# Altium integrated library TI Power Management LDO Single Channel(400-7500mA).IntLib: 1409 symbols (part 5 of 60)
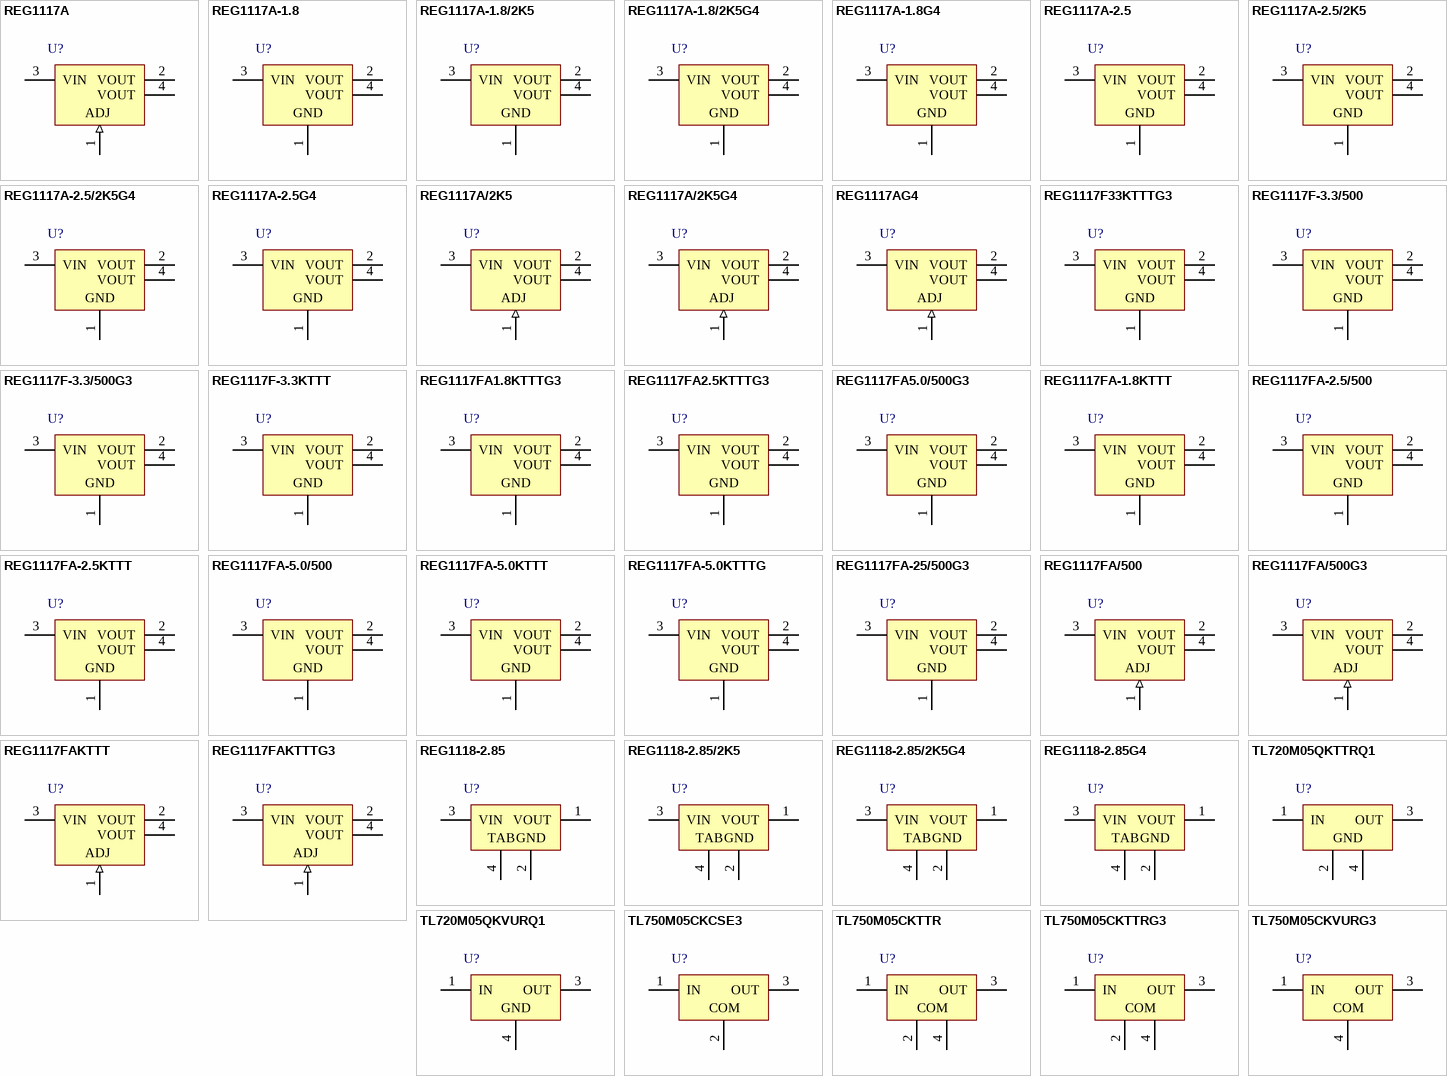
[diagram p54: symbols REG1117A to TL750M05CKVURG3]

## REG1117A-1.8G4
designator U?
Single Output LDO, 1 A, Fixed 1.8 V Output, 3.8 to 15 V Input, with Internal Current Limiting, 4-pin SOT-223 (DCY), -40 to 125 degC, Green (RoHS & no Sb/Br); Manufacturer: Texas Instruments; PartNumber: REG1117A-1.8G4; Fixed Output Options(V): 1.8; Iout(Max)(A): 1; Iq(Typ)(mA): 4; Rating: Catalog; SubFamily: Single Channel LDO; Vdo(Typ)(mV): 1200; Vin(Max)(V): 15; Vin(Min)(V): 3.8; DatasheetVersion: SBVS001D; PackageVersion: 4202506/B; PackageReference: DCY4; PackageDescription: 4-Pin Plastic Small Outline, Body 3.5 x 6.5 mm, Pitch 2.3 mm; Supplier 1: Digi-Key; Supplier Part Number 1: REG1117A-1.8G4-ND; Supplier 2: Newark; Supplier Part Number 2: 28M6745; Supplier 3: Mouser; Supplier Part Number 3: 595-REG1117A-1.8G4; Eco-Plan: Green (RoHS & no Sb/Br); Vout Adj(Max)(V): 1.8; Vout Adj(Min)(V): 1.8; Mounting Technology: Surface Mount; Code_JEDEC: TO-261; ComponentLink1Description: Manufacturer URL; ComponentLink1URL: http://www.ti.com/; ComponentLink2Description: Datasheet; ComponentLink2URL: http://www.ti.com/general/docs/lit/getliterature.tsp?genericPartNumber=REG1117A-18&fileType=pdf; ComponentLink3Description: Package Specification; ComponentLink3URL: http://www.ti.com/litv/pdf/mpds094a
footprint TI-DCY4_N (SOT223, 4-Leads, Body 6.5x3.5mm, Pitch 2.3mm, IPC Medium Density)
footprint TI-DCY4_L (SOT223, 4-Leads, Body 6.5x3.5mm, Pitch 2.3mm, IPC High Density)
footprint TI-DCY4_M (SOT223, 4-Leads, Body 6.5x3.5mm, Pitch 2.3mm, IPC Low Density)
pins: 1 GND (power), 2 VOUT (power), 3 VIN (power), 4 VOUT (power)

## REG1117A-2.5
designator U?
Single Output LDO, 1 A, Fixed 2.5 V Output, 3.8 to 15 V Input, with Internal Current Limiting, 4-pin SOT-223 (DCY), -40 to 125 degC, Green (RoHS & no Sb/Br); Manufacturer: Texas Instruments; PartNumber: REG1117A-2.5; Fixed Output Options(V): 2.5; Iout(Max)(A): 1; Iq(Typ)(mA): 4; Rating: Catalog; SubFamily: Single Channel LDO; Vdo(Typ)(mV): 1200; Vin(Max)(V): 15; Vin(Min)(V): 3.8; DatasheetVersion: SBVS001D; PackageVersion: 4202506/B; PackageReference: DCY4; PackageDescription: 4-Pin Plastic Small Outline, Body 3.5 x 6.5 mm, Pitch 2.3 mm; Supplier 1: Digi-Key; Supplier Part Number 1: REG1117A-2.5-ND; Supplier 2: Farnell; Supplier Part Number 2: 1417414; Supplier 3: Newark; Supplier Part Number 3: 75C7560; Supplier 4: Mouser; Supplier Part Number 4: 595-REG1117A-2.5; Eco-Plan: Green (RoHS & no Sb/Br); Vout Adj(Max)(V): 2.5; Vout Adj(Min)(V): 2.5; Mounting Technology: Surface Mount; Code_JEDEC: TO-261; ComponentLink1Description: Manufacturer URL; ComponentLink1URL: http://www.ti.com/; ComponentLink2Description: Datasheet; ComponentLink2URL: http://www.ti.com/general/docs/lit/getliterature.tsp?genericPartNumber=REG1117A-25&fileType=pdf; ComponentLink3Description: Package Specification; ComponentLink3URL: http://www.ti.com/litv/pdf/mpds094a
footprint TI-DCY4_N (SOT223, 4-Leads, Body 6.5x3.5mm, Pitch 2.3mm, IPC Medium Density)
footprint TI-DCY4_L (SOT223, 4-Leads, Body 6.5x3.5mm, Pitch 2.3mm, IPC High Density)
footprint TI-DCY4_M (SOT223, 4-Leads, Body 6.5x3.5mm, Pitch 2.3mm, IPC Low Density)
pins: 1 GND (power), 2 VOUT (power), 3 VIN (power), 4 VOUT (power)

## REG1117A-2.5/2K5
designator U?
Single Output LDO, 1 A, Fixed 2.5 V Output, 3.8 to 15 V Input, with Internal Current Limiting, 4-pin SOT-223 (DCY), -40 to 125 degC, Green (RoHS & no Sb/Br); Manufacturer: Texas Instruments; PartNumber: REG1117A-2.5/2K5; Fixed Output Options(V): 2.5; Iout(Max)(A): 1; Iq(Typ)(mA): 4; Rating: Catalog; SubFamily: Single Channel LDO; Vdo(Typ)(mV): 1200; Vin(Max)(V): 15; Vin(Min)(V): 3.8; DatasheetVersion: SBVS001D; PackageVersion: 4202506/B; PackageReference: DCY4; PackageDescription: 4-Pin Plastic Small Outline, Body 3.5 x 6.5 mm, Pitch 2.3 mm; Supplier 1: Digi-Key; Supplier Part Number 1: REG1117A-2.5/2K5-ND; Supplier 2: Mouser; Supplier Part Number 2: 595-REG1117A-2.5/2K5; Eco-Plan: Green (RoHS & no Sb/Br); Vout Adj(Max)(V): 2.5; Vout Adj(Min)(V): 2.5; Mounting Technology: Surface Mount; Code_JEDEC: TO-261; ComponentLink1Description: Manufacturer URL; ComponentLink1URL: http://www.ti.com/; ComponentLink2Description: Datasheet; ComponentLink2URL: http://www.ti.com/general/docs/lit/getliterature.tsp?genericPartNumber=REG1117A-25&fileType=pdf; ComponentLink3Description: Package Specification; ComponentLink3URL: http://www.ti.com/litv/pdf/mpds094a
footprint TI-DCY4_N (SOT223, 4-Leads, Body 6.5x3.5mm, Pitch 2.3mm, IPC Medium Density)
footprint TI-DCY4_L (SOT223, 4-Leads, Body 6.5x3.5mm, Pitch 2.3mm, IPC High Density)
footprint TI-DCY4_M (SOT223, 4-Leads, Body 6.5x3.5mm, Pitch 2.3mm, IPC Low Density)
pins: 1 GND (power), 2 VOUT (power), 3 VIN (power), 4 VOUT (power)

## REG1117A-2.5/2K5G4
designator U?
Single Output LDO, 1 A, Fixed 2.5 V Output, 3.8 to 15 V Input, with Internal Current Limiting, 4-pin SOT-223 (DCY), -40 to 125 degC, Green (RoHS & no Sb/Br); Manufacturer: Texas Instruments; PartNumber: REG1117A-2.5/2K5G4; Fixed Output Options(V): 2.5; Iout(Max)(A): 1; Iq(Typ)(mA): 4; Rating: Catalog; SubFamily: Single Channel LDO; Vdo(Typ)(mV): 1200; Vin(Max)(V): 15; Vin(Min)(V): 3.8; DatasheetVersion: SBVS001D; PackageVersion: 4202506/B; PackageReference: DCY4; PackageDescription: 4-Pin Plastic Small Outline, Body 3.5 x 6.5 mm, Pitch 2.3 mm; Supplier 1: Digi-Key; Supplier Part Number 1: REG1117A-2.5/2K5G4-ND; Supplier 2: Newark; Supplier Part Number 2: 18M2965; Supplier 3: Mouser; Supplier Part Number 3: 595-REG1117A252K5G4; Eco-Plan: Green (RoHS & no Sb/Br); Vout Adj(Max)(V): 2.5; Vout Adj(Min)(V): 2.5; Mounting Technology: Surface Mount; Code_JEDEC: TO-261; ComponentLink1Description: Manufacturer URL; ComponentLink1URL: http://www.ti.com/; ComponentLink2Description: Datasheet; ComponentLink2URL: http://www.ti.com/general/docs/lit/getliterature.tsp?genericPartNumber=REG1117A-25&fileType=pdf; ComponentLink3Description: Package Specification; ComponentLink3URL: http://www.ti.com/litv/pdf/mpds094a
footprint TI-DCY4_N (SOT223, 4-Leads, Body 6.5x3.5mm, Pitch 2.3mm, IPC Medium Density)
footprint TI-DCY4_L (SOT223, 4-Leads, Body 6.5x3.5mm, Pitch 2.3mm, IPC High Density)
footprint TI-DCY4_M (SOT223, 4-Leads, Body 6.5x3.5mm, Pitch 2.3mm, IPC Low Density)
pins: 1 GND (power), 2 VOUT (power), 3 VIN (power), 4 VOUT (power)

## REG1117A-2.5G4
designator U?
Single Output LDO, 1 A, Fixed 2.5 V Output, 3.8 to 15 V Input, with Internal Current Limiting, 4-pin SOT-223 (DCY), -40 to 125 degC, Green (RoHS & no Sb/Br); Manufacturer: Texas Instruments; PartNumber: REG1117A-2.5G4; Fixed Output Options(V): 2.5; Iout(Max)(A): 1; Iq(Typ)(mA): 4; Rating: Catalog; SubFamily: Single Channel LDO; Vdo(Typ)(mV): 1200; Vin(Max)(V): 15; Vin(Min)(V): 3.8; DatasheetVersion: SBVS001D; PackageVersion: 4202506/B; PackageReference: DCY4; PackageDescription: 4-Pin Plastic Small Outline, Body 3.5 x 6.5 mm, Pitch 2.3 mm; Supplier 1: Digi-Key; Supplier Part Number 1: REG1117A-2.5G4-ND; Supplier 2: Newark; Supplier Part Number 2: 28M6746; Supplier 3: Mouser; Supplier Part Number 3: 595-REG1117A-2.5G4; Eco-Plan: Green (RoHS & no Sb/Br); Vout Adj(Max)(V): 2.5; Vout Adj(Min)(V): 2.5; Mounting Technology: Surface Mount; Code_JEDEC: TO-261; ComponentLink1Description: Manufacturer URL; ComponentLink1URL: http://www.ti.com/; ComponentLink2Description: Datasheet; ComponentLink2URL: http://www.ti.com/general/docs/lit/getliterature.tsp?genericPartNumber=REG1117A-25&fileType=pdf; ComponentLink3Description: Package Specification; ComponentLink3URL: http://www.ti.com/litv/pdf/mpds094a
footprint TI-DCY4_N (SOT223, 4-Leads, Body 6.5x3.5mm, Pitch 2.3mm, IPC Medium Density)
footprint TI-DCY4_L (SOT223, 4-Leads, Body 6.5x3.5mm, Pitch 2.3mm, IPC High Density)
footprint TI-DCY4_M (SOT223, 4-Leads, Body 6.5x3.5mm, Pitch 2.3mm, IPC Low Density)
pins: 1 GND (power), 2 VOUT (power), 3 VIN (power), 4 VOUT (power)

## REG1117A/2K5
designator U?
Single Output LDO, 1 A, Adjustable 1.25 to 13.5 V Output, 3.8 to 15 V Input, with Internal Current Limiting, 4-pin SOT-223 (DCY), -40 to 125 degC, Green (RoHS & no Sb/Br); Manufacturer: Texas Instruments; PartNumber: REG1117A/2K5; Iout(Max)(A): 1; Iq(Typ)(mA): 4; Rating: Catalog; SubFamily: Single Channel LDO; Vdo(Typ)(mV): 1200; Vin(Max)(V): 15; Vin(Min)(V): 3.8; Vout Adj(Max)(V): 13.5; Vout Adj(Min)(V): 1.5; DatasheetVersion: SBVS001D; PackageVersion: 4202506/B; PackageReference: DCY4; PackageDescription: 4-Pin Plastic Small Outline, Body 3.5 x 6.5 mm, Pitch 2.3 mm; Supplier 1: Digi-Key; Supplier Part Number 1: REG1117A/2K5-ND; Supplier 2: Newark; Supplier Part Number 2: 75C7562; Supplier 3: Mouser; Supplier Part Number 3: 595-REG1117A/2K5; Eco-Plan: Green (RoHS & no Sb/Br); Mounting Technology: Surface Mount; Code_JEDEC: TO-261; ComponentLink1Description: Manufacturer URL; ComponentLink1URL: http://www.ti.com/; ComponentLink2Description: Datasheet; ComponentLink2URL: http://www.ti.com/general/docs/lit/getliterature.tsp?genericPartNumber=REG1117A&fileType=pdf; ComponentLink3Description: Package Specification; ComponentLink3URL: http://www.ti.com/litv/pdf/mpds094a
footprint TI-DCY4_N (SOT223, 4-Leads, Body 6.5x3.5mm, Pitch 2.3mm, IPC Medium Density)
footprint TI-DCY4_L (SOT223, 4-Leads, Body 6.5x3.5mm, Pitch 2.3mm, IPC High Density)
footprint TI-DCY4_M (SOT223, 4-Leads, Body 6.5x3.5mm, Pitch 2.3mm, IPC Low Density)
pins: 1 ADJ (in), 2 VOUT (power), 3 VIN (power), 4 VOUT (power)

## REG1117A/2K5G4
designator U?
Single Output LDO, 1 A, Adjustable 1.25 to 13.5 V Output, 3.8 to 15 V Input, with Internal Current Limiting, 4-pin SOT-223 (DCY), -40 to 125 degC, Green (RoHS & no Sb/Br); Manufacturer: Texas Instruments; PartNumber: REG1117A/2K5G4; Iout(Max)(A): 1; Iq(Typ)(mA): 4; Rating: Catalog; SubFamily: Single Channel LDO; Vdo(Typ)(mV): 1200; Vin(Max)(V): 15; Vin(Min)(V): 3.8; Vout Adj(Max)(V): 13.5; Vout Adj(Min)(V): 1.5; DatasheetVersion: SBVS001D; PackageVersion: 4202506/B; PackageReference: DCY4; PackageDescription: 4-Pin Plastic Small Outline, Body 3.5 x 6.5 mm, Pitch 2.3 mm; Supplier 1: Digi-Key; Supplier Part Number 1: REG1117A/2K5G4-ND; Supplier 2: Newark; Supplier Part Number 2: 60M1722; Supplier 3: Mouser; Supplier Part Number 3: 595-REG1117A/2K5G4; Eco-Plan: Green (RoHS & no Sb/Br); Mounting Technology: Surface Mount; Code_JEDEC: TO-261; ComponentLink1Description: Manufacturer URL; ComponentLink1URL: http://www.ti.com/; ComponentLink2Description: Datasheet; ComponentLink2URL: http://www.ti.com/general/docs/lit/getliterature.tsp?genericPartNumber=REG1117A&fileType=pdf; ComponentLink3Description: Package Specification; ComponentLink3URL: http://www.ti.com/litv/pdf/mpds094a
footprint TI-DCY4_N (SOT223, 4-Leads, Body 6.5x3.5mm, Pitch 2.3mm, IPC Medium Density)
footprint TI-DCY4_L (SOT223, 4-Leads, Body 6.5x3.5mm, Pitch 2.3mm, IPC High Density)
footprint TI-DCY4_M (SOT223, 4-Leads, Body 6.5x3.5mm, Pitch 2.3mm, IPC Low Density)
pins: 1 ADJ (in), 2 VOUT (power), 3 VIN (power), 4 VOUT (power)

## REG1117AG4
designator U?
Single Output LDO, 1 A, Adjustable 1.25 to 13.5 V Output, 3.8 to 15 V Input, with Internal Current Limiting, 4-pin SOT-223 (DCY), -40 to 125 degC, Green (RoHS & no Sb/Br); Manufacturer: Texas Instruments; PartNumber: REG1117AG4; Iout(Max)(A): 1; Iq(Typ)(mA): 4; Rating: Catalog; SubFamily: Single Channel LDO; Vdo(Typ)(mV): 1200; Vin(Max)(V): 15; Vin(Min)(V): 3.8; Vout Adj(Max)(V): 13.5; Vout Adj(Min)(V): 1.5; DatasheetVersion: SBVS001D; PackageVersion: 4202506/B; PackageReference: DCY4; PackageDescription: 4-Pin Plastic Small Outline, Body 3.5 x 6.5 mm, Pitch 2.3 mm; Supplier 1: Digi-Key; Supplier Part Number 1: REG1117AG4-ND; Supplier 2: Newark; Supplier Part Number 2: 14M2182; Supplier 3: Mouser; Supplier Part Number 3: 595-REG1117AG4; Eco-Plan: Green (RoHS & no Sb/Br); Mounting Technology: Surface Mount; Code_JEDEC: TO-261; ComponentLink1Description: Manufacturer URL; ComponentLink1URL: http://www.ti.com/; ComponentLink2Description: Datasheet; ComponentLink2URL: http://www.ti.com/general/docs/lit/getliterature.tsp?genericPartNumber=REG1117A&fileType=pdf; ComponentLink3Description: Package Specification; ComponentLink3URL: http://www.ti.com/litv/pdf/mpds094a
footprint TI-DCY4_N (SOT223, 4-Leads, Body 6.5x3.5mm, Pitch 2.3mm, IPC Medium Density)
footprint TI-DCY4_L (SOT223, 4-Leads, Body 6.5x3.5mm, Pitch 2.3mm, IPC High Density)
footprint TI-DCY4_M (SOT223, 4-Leads, Body 6.5x3.5mm, Pitch 2.3mm, IPC Low Density)
pins: 1 ADJ (in), 2 VOUT (power), 3 VIN (power), 4 VOUT (power)

## REG1117F33KTTTG3
designator U?
Single Output LDO, 800 mA, Fixed 3.3 V Output, 3.8 to 15 V Input, with Internal Current Limiting, 3-pin DDPAK (KTT), -40 to 125 degC, Green (RoHS & no Sb/Br); Manufacturer: Texas Instruments; PartNumber: REG1117F33KTTTG3; Fixed Output Options(V): 5; Iout(Max)(A): 0.8; Iq(Typ)(mA): 4; Rating: Catalog; SubFamily: Single Channel LDO; Vdo(Typ)(mV): 1100; Vin(Max)(V): 15; Vin(Min)(V): 3.8; Vout Adj(Max)(V): 3.3; DatasheetVersion: SBVS001D; PackageVersion: 4200577-2/F; PackageReference: KTT3; PackageDescription: 3-Pin Plastic Flange Mount, Body 10.16 x 10.43 mm, Pitch 2.54 mm; Supplier 1: Digi-Key; Supplier Part Number 1: REG1117F33KTTTG3-ND; Supplier 2: Mouser; Supplier Part Number 2: 595-REG1117F33KTTTG3; Eco-Plan: Green (RoHS & no Sb/Br); Vout Adj(Min)(V): 3.3; Mounting Technology: Surface Mount; Code_JEDEC: TO-263; ComponentLink1Description: Manufacturer URL; ComponentLink1URL: http://www.ti.com/; ComponentLink2Description: Datasheet; ComponentLink2URL: http://www.ti.com/general/docs/lit/getliterature.tsp?genericPartNumber=REG1117-33&fileType=pdf; ComponentLink3Description: Package Specification; ComponentLink3URL: http://www.ti.com/litv/pdf/mpsf006e
footprint TI-KTT3_N (DPAK, 3-Leads, Body 10.16x9.015mm, Pitch 2.54mm, IPC Medium Density)
footprint TI-KTT3_L (DPAK, 3-Leads, Body 10.16x9.015mm, Pitch 2.54mm, IPC High Density)
footprint TI-KTT3_M (DPAK, 3-Leads, Body 10.16x9.015mm, Pitch 2.54mm, IPC Low Density)
pins: 1 GND (power), 2 VOUT (power), 3 VIN (power), 4 VOUT (power)

## REG1117F-3.3/500
designator U?
Single Output LDO, 800 mA, Fixed 3.3 V Output, 3.8 to 15 V Input, with Internal Current Limiting, 3-pin DDPAK (KTT), -40 to 125 degC, Green (RoHS & no Sb/Br); Manufacturer: Texas Instruments; PartNumber: REG1117F-3.3/500; Fixed Output Options(V): 5; Iout(Max)(A): 0.8; Iq(Typ)(mA): 4; Rating: Catalog; SubFamily: Single Channel LDO; Vdo(Typ)(mV): 1100; Vin(Max)(V): 15; Vin(Min)(V): 3.8; Vout Adj(Max)(V): 3.3; DatasheetVersion: SBVS001D; PackageVersion: 4200577-2/F; PackageReference: KTT3; PackageDescription: 3-Pin Plastic Flange Mount, Body 10.16 x 10.43 mm, Pitch 2.54 mm; Supplier 1: Digi-Key; Supplier Part Number 1: 296-15941-2-ND; Supplier 2: Digi-Key; Supplier Part Number 2: 296-15941-1-ND; Supplier 3: Digi-Key; Supplier Part Number 3: 296-15941-6-ND; Supplier 4: Mouser; Supplier Part Number 4: 595-REG1117F-3.3/500; Eco-Plan: Green (RoHS & no Sb/Br); Vout Adj(Min)(V): 3.3; Mounting Technology: Surface Mount; Code_JEDEC: TO-263; ComponentLink1Description: Manufacturer URL; ComponentLink1URL: http://www.ti.com/; ComponentLink2Description: Datasheet; ComponentLink2URL: http://www.ti.com/general/docs/lit/getliterature.tsp?genericPartNumber=REG1117-33&fileType=pdf; ComponentLink3Description: Package Specification; ComponentLink3URL: http://www.ti.com/litv/pdf/mpsf006e
footprint TI-KTT3_N (DPAK, 3-Leads, Body 10.16x9.015mm, Pitch 2.54mm, IPC Medium Density)
footprint TI-KTT3_L (DPAK, 3-Leads, Body 10.16x9.015mm, Pitch 2.54mm, IPC High Density)
footprint TI-KTT3_M (DPAK, 3-Leads, Body 10.16x9.015mm, Pitch 2.54mm, IPC Low Density)
pins: 1 GND (power), 2 VOUT (power), 3 VIN (power), 4 VOUT (power)

## REG1117F-3.3/500G3
designator U?
Single Output LDO, 800 mA, Fixed 3.3 V Output, 3.8 to 15 V Input, with Internal Current Limiting, 3-pin DDPAK (KTT), -40 to 125 degC, Green (RoHS & no Sb/Br); Manufacturer: Texas Instruments; PartNumber: REG1117F-3.3/500G3; Fixed Output Options(V): 5; Iout(Max)(A): 0.8; Iq(Typ)(mA): 4; Rating: Catalog; SubFamily: Single Channel LDO; Vdo(Typ)(mV): 1100; Vin(Max)(V): 15; Vin(Min)(V): 3.8; Vout Adj(Max)(V): 3.3; DatasheetVersion: SBVS001D; PackageVersion: 4200577-2/F; PackageReference: KTT3; PackageDescription: 3-Pin Plastic Flange Mount, Body 10.16 x 10.43 mm, Pitch 2.54 mm; Supplier 1: Digi-Key; Supplier Part Number 1: REG1117F-3.3/500G3-ND; Supplier 2: Mouser; Supplier Part Number 2: 595-REG1117F33500G3; Eco-Plan: Green (RoHS & no Sb/Br); Vout Adj(Min)(V): 3.3; Mounting Technology: Surface Mount; Code_JEDEC: TO-263; ComponentLink1Description: Manufacturer URL; ComponentLink1URL: http://www.ti.com/; ComponentLink2Description: Datasheet; ComponentLink2URL: http://www.ti.com/general/docs/lit/getliterature.tsp?genericPartNumber=REG1117-33&fileType=pdf; ComponentLink3Description: Package Specification; ComponentLink3URL: http://www.ti.com/litv/pdf/mpsf006e
footprint TI-KTT3_N (DPAK, 3-Leads, Body 10.16x9.015mm, Pitch 2.54mm, IPC Medium Density)
footprint TI-KTT3_L (DPAK, 3-Leads, Body 10.16x9.015mm, Pitch 2.54mm, IPC High Density)
footprint TI-KTT3_M (DPAK, 3-Leads, Body 10.16x9.015mm, Pitch 2.54mm, IPC Low Density)
pins: 1 GND (power), 2 VOUT (power), 3 VIN (power), 4 VOUT (power)

## REG1117F-3.3KTTT
designator U?
Single Output LDO, 800 mA, Fixed 3.3 V Output, 3.8 to 15 V Input, with Internal Current Limiting, 3-pin DDPAK (KTT), -40 to 125 degC, Green (RoHS & no Sb/Br); Manufacturer: Texas Instruments; PartNumber: REG1117F-3.3KTTT; Fixed Output Options(V): 5; Iout(Max)(A): 0.8; Iq(Typ)(mA): 4; Rating: Catalog; SubFamily: Single Channel LDO; Vdo(Typ)(mV): 1100; Vin(Max)(V): 15; Vin(Min)(V): 3.8; Vout Adj(Max)(V): 3.3; DatasheetVersion: SBVS001D; PackageVersion: 4200577-2/F; PackageReference: KTT3; PackageDescription: 3-Pin Plastic Flange Mount, Body 10.16 x 10.43 mm, Pitch 2.54 mm; Supplier 1: Digi-Key; Supplier Part Number 1: 296-16005-2-ND; Supplier 2: Digi-Key; Supplier Part Number 2: 296-16005-1-ND; Supplier 3: Digi-Key; Supplier Part Number 3: 296-16005-6-ND; Supplier 4: Newark; Supplier Part Number 4: 87H2558; Supplier 5: Mouser; Supplier Part Number 5: 595-REG1117F-3.3KTTT; Eco-Plan: Green (RoHS & no Sb/Br); Vout Adj(Min)(V): 3.3; Mounting Technology: Surface Mount; Code_JEDEC: TO-263; ComponentLink1Description: Manufacturer URL; ComponentLink1URL: http://www.ti.com/; ComponentLink2Description: Datasheet; ComponentLink2URL: http://www.ti.com/general/docs/lit/getliterature.tsp?genericPartNumber=REG1117-33&fileType=pdf; ComponentLink3Description: Package Specification; ComponentLink3URL: http://www.ti.com/litv/pdf/mpsf006e
footprint TI-KTT3_N (DPAK, 3-Leads, Body 10.16x9.015mm, Pitch 2.54mm, IPC Medium Density)
footprint TI-KTT3_L (DPAK, 3-Leads, Body 10.16x9.015mm, Pitch 2.54mm, IPC High Density)
footprint TI-KTT3_M (DPAK, 3-Leads, Body 10.16x9.015mm, Pitch 2.54mm, IPC Low Density)
pins: 1 GND (power), 2 VOUT (power), 3 VIN (power), 4 VOUT (power)

## REG1117FA1.8KTTTG3
designator U?
Single Output LDO, 1 A, Fixed 1.8 V Output, 3.8 to 15 V Input, with Internal Current Limiting, 3-pin DDPAK (KTT), -40 to 125 degC, Green (RoHS & no Sb/Br); Manufacturer: Texas Instruments; PartNumber: REG1117FA1.8KTTTG3; Fixed Output Options(V): 1.8; Iout(Max)(A): 1; Iq(Typ)(mA): 4; Rating: Catalog; SubFamily: Single Channel LDO; Vdo(Typ)(mV): 1200; Vin(Max)(V): 15; Vin(Min)(V): 3.8; DatasheetVersion: SBVS001D; PackageVersion: 4200577-2/F; PackageReference: KTT3; PackageDescription: 3-Pin Plastic Flange Mount, Body 10.16 x 10.43 mm, Pitch 2.54 mm; Supplier 1: Digi-Key; Supplier Part Number 1: REG1117FA1.8KTTTG3-ND; Supplier 2: Mouser; Supplier Part Number 2: 595-REG1117FA1.8KTTT; Eco-Plan: Green (RoHS & no Sb/Br); Vout Adj(Max)(V): 1.8; Vout Adj(Min)(V): 1.8; Mounting Technology: Surface Mount; Code_JEDEC: TO-263; ComponentLink1Description: Manufacturer URL; ComponentLink1URL: http://www.ti.com/; ComponentLink2Description: Datasheet; ComponentLink2URL: http://www.ti.com/general/docs/lit/getliterature.tsp?genericPartNumber=REG1117A-18&fileType=pdf; ComponentLink3Description: Package Specification; ComponentLink3URL: http://www.ti.com/litv/pdf/mpsf006e
footprint TI-KTT3_N (DPAK, 3-Leads, Body 10.16x9.015mm, Pitch 2.54mm, IPC Medium Density)
footprint TI-KTT3_L (DPAK, 3-Leads, Body 10.16x9.015mm, Pitch 2.54mm, IPC High Density)
footprint TI-KTT3_M (DPAK, 3-Leads, Body 10.16x9.015mm, Pitch 2.54mm, IPC Low Density)
pins: 1 GND (power), 2 VOUT (power), 3 VIN (power), 4 VOUT (power)

## REG1117FA2.5KTTTG3
designator U?
Single Output LDO, 1 A, Fixed 2.5 V Output, 3.8 to 15 V Input, with Internal Current Limiting, 3-pin DDPAK (KTT), -40 to 125 degC, Green (RoHS & no Sb/Br); Manufacturer: Texas Instruments; PartNumber: REG1117FA2.5KTTTG3; Fixed Output Options(V): 2.5; Iout(Max)(A): 1; Iq(Typ)(mA): 4; Rating: Catalog; SubFamily: Single Channel LDO; Vdo(Typ)(mV): 1200; Vin(Max)(V): 15; Vin(Min)(V): 3.8; DatasheetVersion: SBVS001D; PackageVersion: 4200577-2/F; PackageReference: KTT3; PackageDescription: 3-Pin Plastic Flange Mount, Body 10.16 x 10.43 mm, Pitch 2.54 mm; Supplier 1: Digi-Key; Supplier Part Number 1: REG1117FA2.5KTTTG3-ND; Supplier 2: Newark; Supplier Part Number 2: 61K1536; Supplier 3: Mouser; Supplier Part Number 3: 595-REG1117FA2.5KTTT; Eco-Plan: Green (RoHS & no Sb/Br); Vout Adj(Max)(V): 2.5; Vout Adj(Min)(V): 2.5; Mounting Technology: Surface Mount; Code_JEDEC: TO-263; ComponentLink1Description: Manufacturer URL; ComponentLink1URL: http://www.ti.com/; ComponentLink2Description: Datasheet; ComponentLink2URL: http://www.ti.com/general/docs/lit/getliterature.tsp?genericPartNumber=REG1117A-25&fileType=pdf; ComponentLink3Description: Package Specification; ComponentLink3URL: http://www.ti.com/litv/pdf/mpsf006e
footprint TI-KTT3_N (DPAK, 3-Leads, Body 10.16x9.015mm, Pitch 2.54mm, IPC Medium Density)
footprint TI-KTT3_L (DPAK, 3-Leads, Body 10.16x9.015mm, Pitch 2.54mm, IPC High Density)
footprint TI-KTT3_M (DPAK, 3-Leads, Body 10.16x9.015mm, Pitch 2.54mm, IPC Low Density)
pins: 1 GND (power), 2 VOUT (power), 3 VIN (power), 4 VOUT (power)

## REG1117FA5.0/500G3
designator U?
Single Output LDO, 1 A, Fixed 5 V Output, 3.8 to 15 V Input, with Internal Current Limiting, 3-pin DDPAK (KTT), -40 to 125 degC, Green (RoHS & no Sb/Br); Manufacturer: Texas Instruments; PartNumber: REG1117FA5.0/500G3; Fixed Output Options(V): 5; Iout(Max)(A): 1; Iq(Typ)(mA): 4; Rating: Catalog; SubFamily: Single Channel LDO; Vdo(Typ)(mV): 1200; Vin(Max)(V): 15; Vin(Min)(V): 3.8; DatasheetVersion: SBVS001D; PackageVersion: 4200577-2/F; PackageReference: KTT3; PackageDescription: 3-Pin Plastic Flange Mount, Body 10.16 x 10.43 mm, Pitch 2.54 mm; Supplier 1: Digi-Key; Supplier Part Number 1: REG1117FA5.0/500G3-ND; Supplier 2: Newark; Supplier Part Number 2: 85K1456; Supplier 3: Mouser; Supplier Part Number 3: 595-REG1117FA50500G3; Eco-Plan: Green (RoHS & no Sb/Br); Vout Adj(Max)(V): 5; Vout Adj(Min)(V): 5; Mounting Technology: Surface Mount; Code_JEDEC: TO-263; ComponentLink1Description: Manufacturer URL; ComponentLink1URL: http://www.ti.com/; ComponentLink2Description: Datasheet; ComponentLink2URL: http://www.ti.com/general/docs/lit/getliterature.tsp?genericPartNumber=REG1117A-5&fileType=pdf; ComponentLink3Description: Package Specification; ComponentLink3URL: http://www.ti.com/litv/pdf/mpsf006e
footprint TI-KTT3_N (DPAK, 3-Leads, Body 10.16x9.015mm, Pitch 2.54mm, IPC Medium Density)
footprint TI-KTT3_L (DPAK, 3-Leads, Body 10.16x9.015mm, Pitch 2.54mm, IPC High Density)
footprint TI-KTT3_M (DPAK, 3-Leads, Body 10.16x9.015mm, Pitch 2.54mm, IPC Low Density)
pins: 1 GND (power), 2 VOUT (power), 3 VIN (power), 4 VOUT (power)

## REG1117FA-1.8KTTT
designator U?
Single Output LDO, 1 A, Fixed 1.8 V Output, 3.8 to 15 V Input, with Internal Current Limiting, 3-pin DDPAK (KTT), -40 to 125 degC, Green (RoHS & no Sb/Br); Manufacturer: Texas Instruments; PartNumber: REG1117FA-1.8KTTT; Fixed Output Options(V): 1.8; Iout(Max)(A): 1; Iq(Typ)(mA): 4; Rating: Catalog; SubFamily: Single Channel LDO; Vdo(Typ)(mV): 1200; Vin(Max)(V): 15; Vin(Min)(V): 3.8; DatasheetVersion: SBVS001D; PackageVersion: 4200577-2/F; PackageReference: KTT3; PackageDescription: 3-Pin Plastic Flange Mount, Body 10.16 x 10.43 mm, Pitch 2.54 mm; Supplier 1: Digi-Key; Supplier Part Number 1: 296-16007-2-ND; Supplier 2: Digi-Key; Supplier Part Number 2: 296-16007-1-ND; Supplier 3: Digi-Key; Supplier Part Number 3: 296-16007-6-ND; Supplier 4: Newark; Supplier Part Number 4: 87H2559; Supplier 5: Mouser; Supplier Part Number 5: 595-REG1117FA18KTTT; Eco-Plan: Green (RoHS & no Sb/Br); Vout Adj(Max)(V): 1.8; Vout Adj(Min)(V): 1.8; Mounting Technology: Surface Mount; Code_JEDEC: TO-263; ComponentLink1Description: Manufacturer URL; ComponentLink1URL: http://www.ti.com/; ComponentLink2Description: Datasheet; ComponentLink2URL: http://www.ti.com/general/docs/lit/getliterature.tsp?genericPartNumber=REG1117A-18&fileType=pdf; ComponentLink3Description: Package Specification; ComponentLink3URL: http://www.ti.com/litv/pdf/mpsf006e
footprint TI-KTT3_N (DPAK, 3-Leads, Body 10.16x9.015mm, Pitch 2.54mm, IPC Medium Density)
footprint TI-KTT3_L (DPAK, 3-Leads, Body 10.16x9.015mm, Pitch 2.54mm, IPC High Density)
footprint TI-KTT3_M (DPAK, 3-Leads, Body 10.16x9.015mm, Pitch 2.54mm, IPC Low Density)
pins: 1 GND (power), 2 VOUT (power), 3 VIN (power), 4 VOUT (power)

## REG1117FA-2.5/500
designator U?
Single Output LDO, 1 A, Fixed 2.5 V Output, 3.8 to 15 V Input, with Internal Current Limiting, 3-pin DDPAK (KTT), -40 to 125 degC, Green (RoHS & no Sb/Br); Manufacturer: Texas Instruments; PartNumber: REG1117FA-2.5/500; Fixed Output Options(V): 2.5; Iout(Max)(A): 1; Iq(Typ)(mA): 4; Rating: Catalog; SubFamily: Single Channel LDO; Vdo(Typ)(mV): 1200; Vin(Max)(V): 15; Vin(Min)(V): 3.8; DatasheetVersion: SBVS001D; PackageVersion: 4200577-2/F; PackageReference: KTT3; PackageDescription: 3-Pin Plastic Flange Mount, Body 10.16 x 10.43 mm, Pitch 2.54 mm; Supplier 1: Digi-Key; Supplier Part Number 1: 296-15909-2-ND; Supplier 2: Digi-Key; Supplier Part Number 2: 296-15909-1-ND; Supplier 3: Digi-Key; Supplier Part Number 3: 296-15909-6-ND; Supplier 4: Mouser; Supplier Part Number 4: 595-REG1117FA25/500; Eco-Plan: Green (RoHS & no Sb/Br); Vout Adj(Max)(V): 2.5; Vout Adj(Min)(V): 2.5; Mounting Technology: Surface Mount; Code_JEDEC: TO-263; ComponentLink1Description: Manufacturer URL; ComponentLink1URL: http://www.ti.com/; ComponentLink2Description: Datasheet; ComponentLink2URL: http://www.ti.com/general/docs/lit/getliterature.tsp?genericPartNumber=REG1117A-25&fileType=pdf; ComponentLink3Description: Package Specification; ComponentLink3URL: http://www.ti.com/litv/pdf/mpsf006e
footprint TI-KTT3_N (DPAK, 3-Leads, Body 10.16x9.015mm, Pitch 2.54mm, IPC Medium Density)
footprint TI-KTT3_L (DPAK, 3-Leads, Body 10.16x9.015mm, Pitch 2.54mm, IPC High Density)
footprint TI-KTT3_M (DPAK, 3-Leads, Body 10.16x9.015mm, Pitch 2.54mm, IPC Low Density)
pins: 1 GND (power), 2 VOUT (power), 3 VIN (power), 4 VOUT (power)

## REG1117FA-2.5KTTT
designator U?
Single Output LDO, 1 A, Fixed 2.5 V Output, 3.8 to 15 V Input, with Internal Current Limiting, 3-pin DDPAK (KTT), -40 to 125 degC, Green (RoHS & no Sb/Br); Manufacturer: Texas Instruments; PartNumber: REG1117FA-2.5KTTT; Fixed Output Options(V): 2.5; Iout(Max)(A): 1; Iq(Typ)(mA): 4; Rating: Catalog; SubFamily: Single Channel LDO; Vdo(Typ)(mV): 1200; Vin(Max)(V): 15; Vin(Min)(V): 3.8; DatasheetVersion: SBVS001D; PackageVersion: 4200577-2/F; PackageReference: KTT3; PackageDescription: 3-Pin Plastic Flange Mount, Body 10.16 x 10.43 mm, Pitch 2.54 mm; Supplier 1: Digi-Key; Supplier Part Number 1: 296-16008-2-ND; Supplier 2: Digi-Key; Supplier Part Number 2: 296-16008-1-ND; Supplier 3: Digi-Key; Supplier Part Number 3: 296-16008-6-ND; Supplier 4: Farnell; Supplier Part Number 4: 1097498; Supplier 5: Farnell; Supplier Part Number 5: 1097498RL; Supplier 6: Newark; Supplier Part Number 6: 97K8803; Supplier 7: Newark; Supplier Part Number 7: 87H2560; Supplier 8: Mouser; Supplier Part Number 8: 595-REG1117FA25KTTT; Eco-Plan: Green (RoHS & no Sb/Br); Vout Adj(Max)(V): 2.5; Vout Adj(Min)(V): 2.5; Mounting Technology: Surface Mount; Code_JEDEC: TO-263; ComponentLink1Description: Manufacturer URL; ComponentLink1URL: http://www.ti.com/; ComponentLink2Description: Datasheet; ComponentLink2URL: http://www.ti.com/general/docs/lit/getliterature.tsp?genericPartNumber=REG1117A-25&fileType=pdf; ComponentLink3Description: Package Specification; ComponentLink3URL: http://www.ti.com/litv/pdf/mpsf006e
footprint TI-KTT3_N (DPAK, 3-Leads, Body 10.16x9.015mm, Pitch 2.54mm, IPC Medium Density)
footprint TI-KTT3_L (DPAK, 3-Leads, Body 10.16x9.015mm, Pitch 2.54mm, IPC High Density)
footprint TI-KTT3_M (DPAK, 3-Leads, Body 10.16x9.015mm, Pitch 2.54mm, IPC Low Density)
pins: 1 GND (power), 2 VOUT (power), 3 VIN (power), 4 VOUT (power)

## REG1117FA-5.0/500
designator U?
Single Output LDO, 1 A, Fixed 5 V Output, 3.8 to 15 V Input, with Internal Current Limiting, 3-pin DDPAK (KTT), -40 to 125 degC, Green (RoHS & no Sb/Br); Manufacturer: Texas Instruments; PartNumber: REG1117FA-5.0/500; Fixed Output Options(V): 5; Iout(Max)(A): 1; Iq(Typ)(mA): 4; Rating: Catalog; SubFamily: Single Channel LDO; Vdo(Typ)(mV): 1200; Vin(Max)(V): 15; Vin(Min)(V): 3.8; DatasheetVersion: SBVS001D; PackageVersion: 4200577-2/F; PackageReference: KTT3; PackageDescription: 3-Pin Plastic Flange Mount, Body 10.16 x 10.43 mm, Pitch 2.54 mm; Supplier 1: Digi-Key; Supplier Part Number 1: 296-15910-2-ND; Supplier 2: Digi-Key; Supplier Part Number 2: 296-15910-1-ND; Supplier 3: Digi-Key; Supplier Part Number 3: 296-15910-6-ND; Supplier 4: Mouser; Supplier Part Number 4: 595-REG1117FA50/500; Eco-Plan: Green (RoHS & no Sb/Br); Vout Adj(Max)(V): 5; Vout Adj(Min)(V): 5; Mounting Technology: Surface Mount; Code_JEDEC: TO-263; ComponentLink1Description: Manufacturer URL; ComponentLink1URL: http://www.ti.com/; ComponentLink2Description: Datasheet; ComponentLink2URL: http://www.ti.com/general/docs/lit/getliterature.tsp?genericPartNumber=REG1117A-5&fileType=pdf; ComponentLink3Description: Package Specification; ComponentLink3URL: http://www.ti.com/litv/pdf/mpsf006e
footprint TI-KTT3_N (DPAK, 3-Leads, Body 10.16x9.015mm, Pitch 2.54mm, IPC Medium Density)
footprint TI-KTT3_L (DPAK, 3-Leads, Body 10.16x9.015mm, Pitch 2.54mm, IPC High Density)
footprint TI-KTT3_M (DPAK, 3-Leads, Body 10.16x9.015mm, Pitch 2.54mm, IPC Low Density)
pins: 1 GND (power), 2 VOUT (power), 3 VIN (power), 4 VOUT (power)

## REG1117FA-5.0KTTT
designator U?
Single Output LDO, 1 A, Fixed 5 V Output, 3.8 to 15 V Input, with Internal Current Limiting, 3-pin DDPAK (KTT), -40 to 125 degC, Green (RoHS & no Sb/Br); Manufacturer: Texas Instruments; PartNumber: REG1117FA-5.0KTTT; Fixed Output Options(V): 5; Iout(Max)(A): 1; Iq(Typ)(mA): 4; Rating: Catalog; SubFamily: Single Channel LDO; Vdo(Typ)(mV): 1200; Vin(Max)(V): 15; Vin(Min)(V): 3.8; DatasheetVersion: SBVS001D; PackageVersion: 4200577-2/F; PackageReference: KTT3; PackageDescription: 3-Pin Plastic Flange Mount, Body 10.16 x 10.43 mm, Pitch 2.54 mm; Supplier 1: Digi-Key; Supplier Part Number 1: 296-16009-2-ND; Supplier 2: Digi-Key; Supplier Part Number 2: 296-16009-1-ND; Supplier 3: Digi-Key; Supplier Part Number 3: 296-16009-6-ND; Supplier 4: Newark; Supplier Part Number 4: 87H2561; Supplier 5: Mouser; Supplier Part Number 5: 595-REG1117FA50KTTT; Eco-Plan: Green (RoHS & no Sb/Br); Vout Adj(Max)(V): 5; Vout Adj(Min)(V): 5; Mounting Technology: Surface Mount; Code_JEDEC: TO-263; ComponentLink1Description: Manufacturer URL; ComponentLink1URL: http://www.ti.com/; ComponentLink2Description: Datasheet; ComponentLink2URL: http://www.ti.com/general/docs/lit/getliterature.tsp?genericPartNumber=REG1117A-5&fileType=pdf; ComponentLink3Description: Package Specification; ComponentLink3URL: http://www.ti.com/litv/pdf/mpsf006e
footprint TI-KTT3_N (DPAK, 3-Leads, Body 10.16x9.015mm, Pitch 2.54mm, IPC Medium Density)
footprint TI-KTT3_L (DPAK, 3-Leads, Body 10.16x9.015mm, Pitch 2.54mm, IPC High Density)
footprint TI-KTT3_M (DPAK, 3-Leads, Body 10.16x9.015mm, Pitch 2.54mm, IPC Low Density)
pins: 1 GND (power), 2 VOUT (power), 3 VIN (power), 4 VOUT (power)

## REG1117FA-5.0KTTTG
designator U?
Single Output LDO, 1 A, Fixed 5 V Output, 3.8 to 15 V Input, with Internal Current Limiting, 3-pin DDPAK (KTT), -40 to 125 degC, Green (RoHS & no Sb/Br); Manufacturer: Texas Instruments; PartNumber: REG1117FA-5.0KTTTG; Fixed Output Options(V): 5; Iout(Max)(A): 1; Iq(Typ)(mA): 4; Rating: Catalog; SubFamily: Single Channel LDO; Vdo(Typ)(mV): 1200; Vin(Max)(V): 15; Vin(Min)(V): 3.8; DatasheetVersion: SBVS001D; PackageVersion: 4200577-2/F; PackageReference: KTT3; PackageDescription: 3-Pin Plastic Flange Mount, Body 10.16 x 10.43 mm, Pitch 2.54 mm; Supplier 1: Digi-Key; Supplier Part Number 1: REG1117FA-5.0KTTTG-ND; Supplier 2: Mouser; Supplier Part Number 2: 595-REG1117FA50KTTTG; Eco-Plan: Green (RoHS & no Sb/Br); Vout Adj(Max)(V): 5; Vout Adj(Min)(V): 5; Mounting Technology: Surface Mount; Code_JEDEC: TO-263; ComponentLink1Description: Manufacturer URL; ComponentLink1URL: http://www.ti.com/; ComponentLink2Description: Datasheet; ComponentLink2URL: http://www.ti.com/general/docs/lit/getliterature.tsp?genericPartNumber=REG1117A-5&fileType=pdf; ComponentLink3Description: Package Specification; ComponentLink3URL: http://www.ti.com/litv/pdf/mpsf006e
footprint TI-KTT3_N (DPAK, 3-Leads, Body 10.16x9.015mm, Pitch 2.54mm, IPC Medium Density)
footprint TI-KTT3_L (DPAK, 3-Leads, Body 10.16x9.015mm, Pitch 2.54mm, IPC High Density)
footprint TI-KTT3_M (DPAK, 3-Leads, Body 10.16x9.015mm, Pitch 2.54mm, IPC Low Density)
pins: 1 GND (power), 2 VOUT (power), 3 VIN (power), 4 VOUT (power)

## REG1117FA-25/500G3
designator U?
Single Output LDO, 1 A, Fixed 2.5 V Output, 3.8 to 15 V Input, with Internal Current Limiting, 3-pin DDPAK (KTT), -40 to 125 degC, Green (RoHS & no Sb/Br); Manufacturer: Texas Instruments; PartNumber: REG1117FA-25/500G3; Fixed Output Options(V): 2.5; Iout(Max)(A): 1; Iq(Typ)(mA): 4; Rating: Catalog; SubFamily: Single Channel LDO; Vdo(Typ)(mV): 1200; Vin(Max)(V): 15; Vin(Min)(V): 3.8; DatasheetVersion: SBVS001D; PackageVersion: 4200577-2/F; PackageReference: KTT3; PackageDescription: 3-Pin Plastic Flange Mount, Body 10.16 x 10.43 mm, Pitch 2.54 mm; Supplier 1: Digi-Key; Supplier Part Number 1: REG1117FA-25/500G3-ND; Supplier 2: Mouser; Supplier Part Number 2: 595-REG1117FA25500G3; Eco-Plan: Green (RoHS & no Sb/Br); Vout Adj(Max)(V): 2.5; Vout Adj(Min)(V): 2.5; Mounting Technology: Surface Mount; Code_JEDEC: TO-263; ComponentLink1Description: Manufacturer URL; ComponentLink1URL: http://www.ti.com/; ComponentLink2Description: Datasheet; ComponentLink2URL: http://www.ti.com/general/docs/lit/getliterature.tsp?genericPartNumber=REG1117A-25&fileType=pdf; ComponentLink3Description: Package Specification; ComponentLink3URL: http://www.ti.com/litv/pdf/mpsf006e
footprint TI-KTT3_N (DPAK, 3-Leads, Body 10.16x9.015mm, Pitch 2.54mm, IPC Medium Density)
footprint TI-KTT3_L (DPAK, 3-Leads, Body 10.16x9.015mm, Pitch 2.54mm, IPC High Density)
footprint TI-KTT3_M (DPAK, 3-Leads, Body 10.16x9.015mm, Pitch 2.54mm, IPC Low Density)
pins: 1 GND (power), 2 VOUT (power), 3 VIN (power), 4 VOUT (power)

## REG1117FA/500
designator U?
Single Output LDO, 1 A, Adjustable 1.25 to 13.5 V Output, 3.8 to 15 V Input, with Internal Current Limiting, 3-pin DDPAK (KTT), -40 to 125 degC, Green (RoHS & no Sb/Br); Manufacturer: Texas Instruments; PartNumber: REG1117FA/500; Iout(Max)(A): 1; Iq(Typ)(mA): 4; Rating: Catalog; SubFamily: Single Channel LDO; Vdo(Typ)(mV): 1200; Vin(Max)(V): 15; Vin(Min)(V): 3.8; Vout Adj(Max)(V): 13.5; Vout Adj(Min)(V): 1.5; DatasheetVersion: SBVS001D; PackageVersion: 4200577-2/F; PackageReference: KTT3; PackageDescription: 3-Pin Plastic Flange Mount, Body 10.16 x 10.43 mm, Pitch 2.54 mm; Supplier 1: Digi-Key; Supplier Part Number 1: 296-15942-2-ND; Supplier 2: Digi-Key; Supplier Part Number 2: 296-15942-1-ND; Supplier 3: Digi-Key; Supplier Part Number 3: 296-15942-6-ND; Supplier 4: Newark; Supplier Part Number 4: 75C7572; Supplier 5: Mouser; Supplier Part Number 5: 595-REG1117FA/500; Eco-Plan: Green (RoHS & no Sb/Br); Mounting Technology: Surface Mount; Code_JEDEC: TO-263; ComponentLink1Description: Manufacturer URL; ComponentLink1URL: http://www.ti.com/; ComponentLink2Description: Datasheet; ComponentLink2URL: http://www.ti.com/general/docs/lit/getliterature.tsp?genericPartNumber=REG1117A&fileType=pdf; ComponentLink3Description: Package Specification; ComponentLink3URL: http://www.ti.com/litv/pdf/mpsf006e
footprint TI-KTT3_N (DPAK, 3-Leads, Body 10.16x9.015mm, Pitch 2.54mm, IPC Medium Density)
footprint TI-KTT3_L (DPAK, 3-Leads, Body 10.16x9.015mm, Pitch 2.54mm, IPC High Density)
footprint TI-KTT3_M (DPAK, 3-Leads, Body 10.16x9.015mm, Pitch 2.54mm, IPC Low Density)
pins: 1 ADJ (in), 2 VOUT (power), 3 VIN (power), 4 VOUT (power)

## REG1117FA/500G3
designator U?
Single Output LDO, 1 A, Adjustable 1.25 to 13.5 V Output, 3.8 to 15 V Input, with Internal Current Limiting, 3-pin DDPAK (KTT), -40 to 125 degC, Green (RoHS & no Sb/Br); Manufacturer: Texas Instruments; PartNumber: REG1117FA/500G3; Iout(Max)(A): 1; Iq(Typ)(mA): 4; Rating: Catalog; SubFamily: Single Channel LDO; Vdo(Typ)(mV): 1200; Vin(Max)(V): 15; Vin(Min)(V): 3.8; Vout Adj(Max)(V): 13.5; Vout Adj(Min)(V): 1.5; DatasheetVersion: SBVS001D; PackageVersion: 4200577-2/F; PackageReference: KTT3; PackageDescription: 3-Pin Plastic Flange Mount, Body 10.16 x 10.43 mm, Pitch 2.54 mm; Supplier 1: Digi-Key; Supplier Part Number 1: REG1117FA/500G3-ND; Supplier 2: Mouser; Supplier Part Number 2: 595-REG1117FA/500G3; Eco-Plan: Green (RoHS & no Sb/Br); Mounting Technology: Surface Mount; Code_JEDEC: TO-263; ComponentLink1Description: Manufacturer URL; ComponentLink1URL: http://www.ti.com/; ComponentLink2Description: Datasheet; ComponentLink2URL: http://www.ti.com/general/docs/lit/getliterature.tsp?genericPartNumber=REG1117A&fileType=pdf; ComponentLink3Description: Package Specification; ComponentLink3URL: http://www.ti.com/litv/pdf/mpsf006e
footprint TI-KTT3_N (DPAK, 3-Leads, Body 10.16x9.015mm, Pitch 2.54mm, IPC Medium Density)
footprint TI-KTT3_L (DPAK, 3-Leads, Body 10.16x9.015mm, Pitch 2.54mm, IPC High Density)
footprint TI-KTT3_M (DPAK, 3-Leads, Body 10.16x9.015mm, Pitch 2.54mm, IPC Low Density)
pins: 1 ADJ (in), 2 VOUT (power), 3 VIN (power), 4 VOUT (power)

## REG1117FAKTTT
designator U?
Single Output LDO, 1 A, Adjustable 1.25 to 13.5 V Output, 3.8 to 15 V Input, with Internal Current Limiting, 3-pin DDPAK (KTT), -40 to 125 degC, Green (RoHS & no Sb/Br); Manufacturer: Texas Instruments; PartNumber: REG1117FAKTTT; Iout(Max)(A): 1; Iq(Typ)(mA): 4; Rating: Catalog; SubFamily: Single Channel LDO; Vdo(Typ)(mV): 1200; Vin(Max)(V): 15; Vin(Min)(V): 3.8; Vout Adj(Max)(V): 13.5; Vout Adj(Min)(V): 1.5; DatasheetVersion: SBVS001D; PackageVersion: 4200577-2/F; PackageReference: KTT3; PackageDescription: 3-Pin Plastic Flange Mount, Body 10.16 x 10.43 mm, Pitch 2.54 mm; Supplier 1: Digi-Key; Supplier Part Number 1: 296-16006-2-ND; Supplier 2: Digi-Key; Supplier Part Number 2: 296-16006-1-ND; Supplier 3: Digi-Key; Supplier Part Number 3: 296-16006-6-ND; Supplier 4: Newark; Supplier Part Number 4: 87H2562; Supplier 5: Mouser; Supplier Part Number 5: 595-REG1117FAKTTT; Eco-Plan: Green (RoHS & no Sb/Br); Mounting Technology: Surface Mount; Code_JEDEC: TO-263; ComponentLink1Description: Manufacturer URL; ComponentLink1URL: http://www.ti.com/; ComponentLink2Description: Datasheet; ComponentLink2URL: http://www.ti.com/general/docs/lit/getliterature.tsp?genericPartNumber=REG1117A&fileType=pdf; ComponentLink3Description: Package Specification; ComponentLink3URL: http://www.ti.com/litv/pdf/mpsf006e
footprint TI-KTT3_N (DPAK, 3-Leads, Body 10.16x9.015mm, Pitch 2.54mm, IPC Medium Density)
footprint TI-KTT3_L (DPAK, 3-Leads, Body 10.16x9.015mm, Pitch 2.54mm, IPC High Density)
footprint TI-KTT3_M (DPAK, 3-Leads, Body 10.16x9.015mm, Pitch 2.54mm, IPC Low Density)
pins: 1 ADJ (in), 2 VOUT (power), 3 VIN (power), 4 VOUT (power)

## REG1117FAKTTTG3
designator U?
Single Output LDO, 1 A, Adjustable 1.25 to 13.5 V Output, 3.8 to 15 V Input, with Internal Current Limiting, 3-pin DDPAK (KTT), -40 to 125 degC, Green (RoHS & no Sb/Br); Manufacturer: Texas Instruments; PartNumber: REG1117FAKTTTG3; Iout(Max)(A): 1; Iq(Typ)(mA): 4; Rating: Catalog; SubFamily: Single Channel LDO; Vdo(Typ)(mV): 1200; Vin(Max)(V): 15; Vin(Min)(V): 3.8; Vout Adj(Max)(V): 13.5; Vout Adj(Min)(V): 1.5; DatasheetVersion: SBVS001D; PackageVersion: 4200577-2/F; PackageReference: KTT3; PackageDescription: 3-Pin Plastic Flange Mount, Body 10.16 x 10.43 mm, Pitch 2.54 mm; Supplier 1: Digi-Key; Supplier Part Number 1: REG1117FAKTTTG3-ND; Supplier 2: Newark; Supplier Part Number 2: 06M7614; Supplier 3: Mouser; Supplier Part Number 3: 595-REG1117FAKTTTG3; Eco-Plan: Green (RoHS & no Sb/Br); Mounting Technology: Surface Mount; Code_JEDEC: TO-263; ComponentLink1Description: Manufacturer URL; ComponentLink1URL: http://www.ti.com/; ComponentLink2Description: Datasheet; ComponentLink2URL: http://www.ti.com/general/docs/lit/getliterature.tsp?genericPartNumber=REG1117A&fileType=pdf; ComponentLink3Description: Package Specification; ComponentLink3URL: http://www.ti.com/litv/pdf/mpsf006e
footprint TI-KTT3_N (DPAK, 3-Leads, Body 10.16x9.015mm, Pitch 2.54mm, IPC Medium Density)
footprint TI-KTT3_L (DPAK, 3-Leads, Body 10.16x9.015mm, Pitch 2.54mm, IPC High Density)
footprint TI-KTT3_M (DPAK, 3-Leads, Body 10.16x9.015mm, Pitch 2.54mm, IPC Low Density)
pins: 1 ADJ (in), 2 VOUT (power), 3 VIN (power), 4 VOUT (power)

## REG1118-2.85
designator U?
Single Output LDO, 800 mA, Fixed 2.85 V Output, 4.75 to 6 V Input, with Current Source and Sink Capability, 4-pin SOT-223 (DCY), 0 to 125 degC, Green (RoHS & no Sb/Br); Manufacturer: Texas Instruments; PartNumber: REG1118-2.85; Fixed Output Options(V): 2.85; Iout(Max)(A): 0.8; Iq(Typ)(mA): 3; Rating: Catalog; SubFamily: Single Channel LDO; Vdo(Typ)(mV): 1100; Vin(Max)(V): 6; Vin(Min)(V): 4.75; DatasheetVersion: SBVS005; PackageVersion: 4202506/B; PackageReference: DCY4; PackageDescription: 4-Pin Plastic Small Outline, Body 3.5 x 6.5 mm, Pitch 2.3 mm; Supplier 1: Digi-Key; Supplier Part Number 1: REG1118-2.85-ND; Supplier 2: Newark; Supplier Part Number 2: 75C7573; Supplier 3: Mouser; Supplier Part Number 3: 595-REG1118-2.85; Eco-Plan: Green (RoHS & no Sb/Br); Vout Adj(Max)(V): 2.85; Vout Adj(Min)(V): 2.85; Mounting Technology: Surface Mount; Code_JEDEC: TO-261; ComponentLink1Description: Manufacturer URL; ComponentLink1URL: http://www.ti.com/; ComponentLink2Description: Datasheet; ComponentLink2URL: http://www.ti.com/general/docs/lit/getliterature.tsp?genericPartNumber=REG1118&fileType=pdf; ComponentLink3Description: Package Specification; ComponentLink3URL: http://www.ti.com/litv/pdf/mpds094a
footprint TI-DCY4_N (SOT223, 4-Leads, Body 6.5x3.5mm, Pitch 2.3mm, IPC Medium Density)
footprint TI-DCY4_L (SOT223, 4-Leads, Body 6.5x3.5mm, Pitch 2.3mm, IPC High Density)
footprint TI-DCY4_M (SOT223, 4-Leads, Body 6.5x3.5mm, Pitch 2.3mm, IPC Low Density)
pins: 1 VOUT (power), 2 GND (power), 3 VIN (power), 4 TAB (power)

## REG1118-2.85/2K5
designator U?
Single Output LDO, 800 mA, Fixed 2.85 V Output, 4.75 to 6 V Input, with Current Source and Sink Capability, 4-pin SOT-223 (DCY), 0 to 125 degC, Green (RoHS & no Sb/Br); Manufacturer: Texas Instruments; PartNumber: REG1118-2.85/2K5; Fixed Output Options(V): 2.85; Iout(Max)(A): 0.8; Iq(Typ)(mA): 3; Rating: Catalog; SubFamily: Single Channel LDO; Vdo(Typ)(mV): 1100; Vin(Max)(V): 6; Vin(Min)(V): 4.75; DatasheetVersion: SBVS005; PackageVersion: 4202506/B; PackageReference: DCY4; PackageDescription: 4-Pin Plastic Small Outline, Body 3.5 x 6.5 mm, Pitch 2.3 mm; Supplier 1: Digi-Key; Supplier Part Number 1: REG1118-2.85/2K5-ND; Supplier 2: Newark; Supplier Part Number 2: 75C7574; Supplier 3: Mouser; Supplier Part Number 3: 595-REG1118-2.85/2K5; Eco-Plan: Green (RoHS & no Sb/Br); Vout Adj(Max)(V): 2.85; Vout Adj(Min)(V): 2.85; Mounting Technology: Surface Mount; Code_JEDEC: TO-261; ComponentLink1Description: Manufacturer URL; ComponentLink1URL: http://www.ti.com/; ComponentLink2Description: Datasheet; ComponentLink2URL: http://www.ti.com/general/docs/lit/getliterature.tsp?genericPartNumber=REG1118&fileType=pdf; ComponentLink3Description: Package Specification; ComponentLink3URL: http://www.ti.com/litv/pdf/mpds094a
footprint TI-DCY4_N (SOT223, 4-Leads, Body 6.5x3.5mm, Pitch 2.3mm, IPC Medium Density)
footprint TI-DCY4_L (SOT223, 4-Leads, Body 6.5x3.5mm, Pitch 2.3mm, IPC High Density)
footprint TI-DCY4_M (SOT223, 4-Leads, Body 6.5x3.5mm, Pitch 2.3mm, IPC Low Density)
pins: 1 VOUT (power), 2 GND (power), 3 VIN (power), 4 TAB (power)

## REG1118-2.85/2K5G4
designator U?
Single Output LDO, 800 mA, Fixed 2.85 V Output, 4.75 to 6 V Input, with Current Source and Sink Capability, 4-pin SOT-223 (DCY), 0 to 125 degC, Green (RoHS & no Sb/Br); Manufacturer: Texas Instruments; PartNumber: REG1118-2.85/2K5G4; Fixed Output Options(V): 2.85; Iout(Max)(A): 0.8; Iq(Typ)(mA): 3; Rating: Catalog; SubFamily: Single Channel LDO; Vdo(Typ)(mV): 1100; Vin(Max)(V): 6; Vin(Min)(V): 4.75; DatasheetVersion: SBVS005; PackageVersion: 4202506/B; PackageReference: DCY4; PackageDescription: 4-Pin Plastic Small Outline, Body 3.5 x 6.5 mm, Pitch 2.3 mm; Supplier 1: Digi-Key; Supplier Part Number 1: REG1118-2.85/2K5G4-ND; Supplier 2: Newark; Supplier Part Number 2: 14M2185; Supplier 3: Mouser; Supplier Part Number 3: 595-REG11182852K5G4; Eco-Plan: Green (RoHS & no Sb/Br); Vout Adj(Max)(V): 2.85; Vout Adj(Min)(V): 2.85; Mounting Technology: Surface Mount; Code_JEDEC: TO-261; ComponentLink1Description: Manufacturer URL; ComponentLink1URL: http://www.ti.com/; ComponentLink2Description: Datasheet; ComponentLink2URL: http://www.ti.com/general/docs/lit/getliterature.tsp?genericPartNumber=REG1118&fileType=pdf; ComponentLink3Description: Package Specification; ComponentLink3URL: http://www.ti.com/litv/pdf/mpds094a
footprint TI-DCY4_N (SOT223, 4-Leads, Body 6.5x3.5mm, Pitch 2.3mm, IPC Medium Density)
footprint TI-DCY4_L (SOT223, 4-Leads, Body 6.5x3.5mm, Pitch 2.3mm, IPC High Density)
footprint TI-DCY4_M (SOT223, 4-Leads, Body 6.5x3.5mm, Pitch 2.3mm, IPC Low Density)
pins: 1 VOUT (power), 2 GND (power), 3 VIN (power), 4 TAB (power)

## REG1118-2.85G4
designator U?
Single Output LDO, 800 mA, Fixed 2.85 V Output, 4.75 to 6 V Input, with Current Source and Sink Capability, 4-pin SOT-223 (DCY), 0 to 125 degC, Green (RoHS & no Sb/Br); Manufacturer: Texas Instruments; PartNumber: REG1118-2.85G4; Fixed Output Options(V): 2.85; Iout(Max)(A): 0.8; Iq(Typ)(mA): 3; Rating: Catalog; SubFamily: Single Channel LDO; Vdo(Typ)(mV): 1100; Vin(Max)(V): 6; Vin(Min)(V): 4.75; DatasheetVersion: SBVS005; PackageVersion: 4202506/B; PackageReference: DCY4; PackageDescription: 4-Pin Plastic Small Outline, Body 3.5 x 6.5 mm, Pitch 2.3 mm; Supplier 1: Digi-Key; Supplier Part Number 1: REG1118-2.85G4-ND; Supplier 2: Newark; Supplier Part Number 2: 27M0740; Supplier 3: Mouser; Supplier Part Number 3: 595-REG1118-2.85G4; Eco-Plan: Green (RoHS & no Sb/Br); Vout Adj(Max)(V): 2.85; Vout Adj(Min)(V): 2.85; Mounting Technology: Surface Mount; Code_JEDEC: TO-261; ComponentLink1Description: Manufacturer URL; ComponentLink1URL: http://www.ti.com/; ComponentLink2Description: Datasheet; ComponentLink2URL: http://www.ti.com/general/docs/lit/getliterature.tsp?genericPartNumber=REG1118&fileType=pdf; ComponentLink3Description: Package Specification; ComponentLink3URL: http://www.ti.com/litv/pdf/mpds094a
footprint TI-DCY4_N (SOT223, 4-Leads, Body 6.5x3.5mm, Pitch 2.3mm, IPC Medium Density)
footprint TI-DCY4_L (SOT223, 4-Leads, Body 6.5x3.5mm, Pitch 2.3mm, IPC High Density)
footprint TI-DCY4_M (SOT223, 4-Leads, Body 6.5x3.5mm, Pitch 2.3mm, IPC Low Density)
pins: 1 VOUT (power), 2 GND (power), 3 VIN (power), 4 TAB (power)

## TL720M05QKTTRQ1
designator U?
Single Output Automotive LDO, 700 mA, Fixed 5 V Output, 5.5 to 42 V Input, 3-pin DDPAK (KTT), -40 to 125 degC, Green (RoHS & no Sb/Br); Manufacturer: Texas Instruments; PartNumber: TL720M05QKTTRQ1; Accuracy(%): 2; Fixed Output Options(V): 5; Iout(Max)(A): 0.7; Iq(Typ)(mA): 12; SubFamily: Single Channel LDO; Vdo(Typ)(mV): 250; Vin(Max)(V): 42; Vin(Min)(V): 5.5; DatasheetVersion: SGLS380D; PackageVersion: 4200577-2/F; PackageReference: KTT3; PackageDescription: 3-Pin Plastic Flange Mount, Body 10.16 x 10.43 mm, Pitch 2.54 mm; Supplier 1: Digi-Key; Supplier Part Number 1: 296-24666-2-ND; Supplier 2: Digi-Key; Supplier Part Number 2: 296-24666-1-ND; Supplier 3: Digi-Key; Supplier Part Number 3: 296-24666-6-ND; Supplier 4: Newark; Supplier Part Number 4: 25R0012; Supplier 5: Mouser; Supplier Part Number 5: 595-TL720M05QKTTRQ1; Eco-Plan: Green (RoHS & no Sb/Br); Vout Adj(Max)(V): 5; Vout Adj(Min)(V): 5; Mounting Technology: Surface Mount; Code_JEDEC: TO-263; ComponentLink1Description: Manufacturer URL; ComponentLink1URL: http://www.ti.com/; ComponentLink2Description: Datasheet; ComponentLink2URL: http://www.ti.com/general/docs/lit/getliterature.tsp?genericPartNumber=TL720M05-Q1&fileType=pdf; ComponentLink3Description: Package Specification; ComponentLink3URL: http://www.ti.com/litv/pdf/mpsf006e
footprint TI-KTT3_N (DPAK, 3-Leads, Body 10.16x9.015mm, Pitch 2.54mm, IPC Medium Density)
footprint TI-KTT3_L (DPAK, 3-Leads, Body 10.16x9.015mm, Pitch 2.54mm, IPC High Density)
footprint TI-KTT3_M (DPAK, 3-Leads, Body 10.16x9.015mm, Pitch 2.54mm, IPC Low Density)
pins: 1 IN (power) "Input voltage. Connect to ground as close to device as possible, through a ceramic capacitor.", 2 GND (power) "Ground. Internally connected to heatsink", 3 OUT (power) "Output. Connect to ground with >=22-uF capacitor, ESR < 5 Ohm at 10 kHz.", 4 GND (power) "Ground. Internally connected to heatsink"